# Altium schematic symbol library SCH - POWER - MODULE - ONSEMI-LDO-NCP730ASN500T1G.SCHLIB: 1 symbol
Pins are listed as number, name and electrical type; pins without a type are passive.

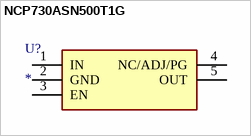
[diagram p0: symbol NCP730ASN500T1G]

## NCP730ASN500T1G
designator U?
Integrated Circuit; Manufacturer_Name: ON Semiconductor; Manufacturer_Part_Number: NCP730ASN500T1G; Description: LDO Regulator Pos 5V 0.15A 5-Pin TSOP T/R; Datasheet Link: https://componentsearchengine.com/Datasheets/1/SZ1.5SMC27AT3G.pdf; Height: 1.1mm
footprint SOT95P275X110-5N
pins: 1 IN, 2 GND, 3 EN, 4 NC/ADJ/PG, 5 OUT